# Altium integrated library Linear Technology Power Management Power Control.IntLib: 661 symbols (part 32 of 43)
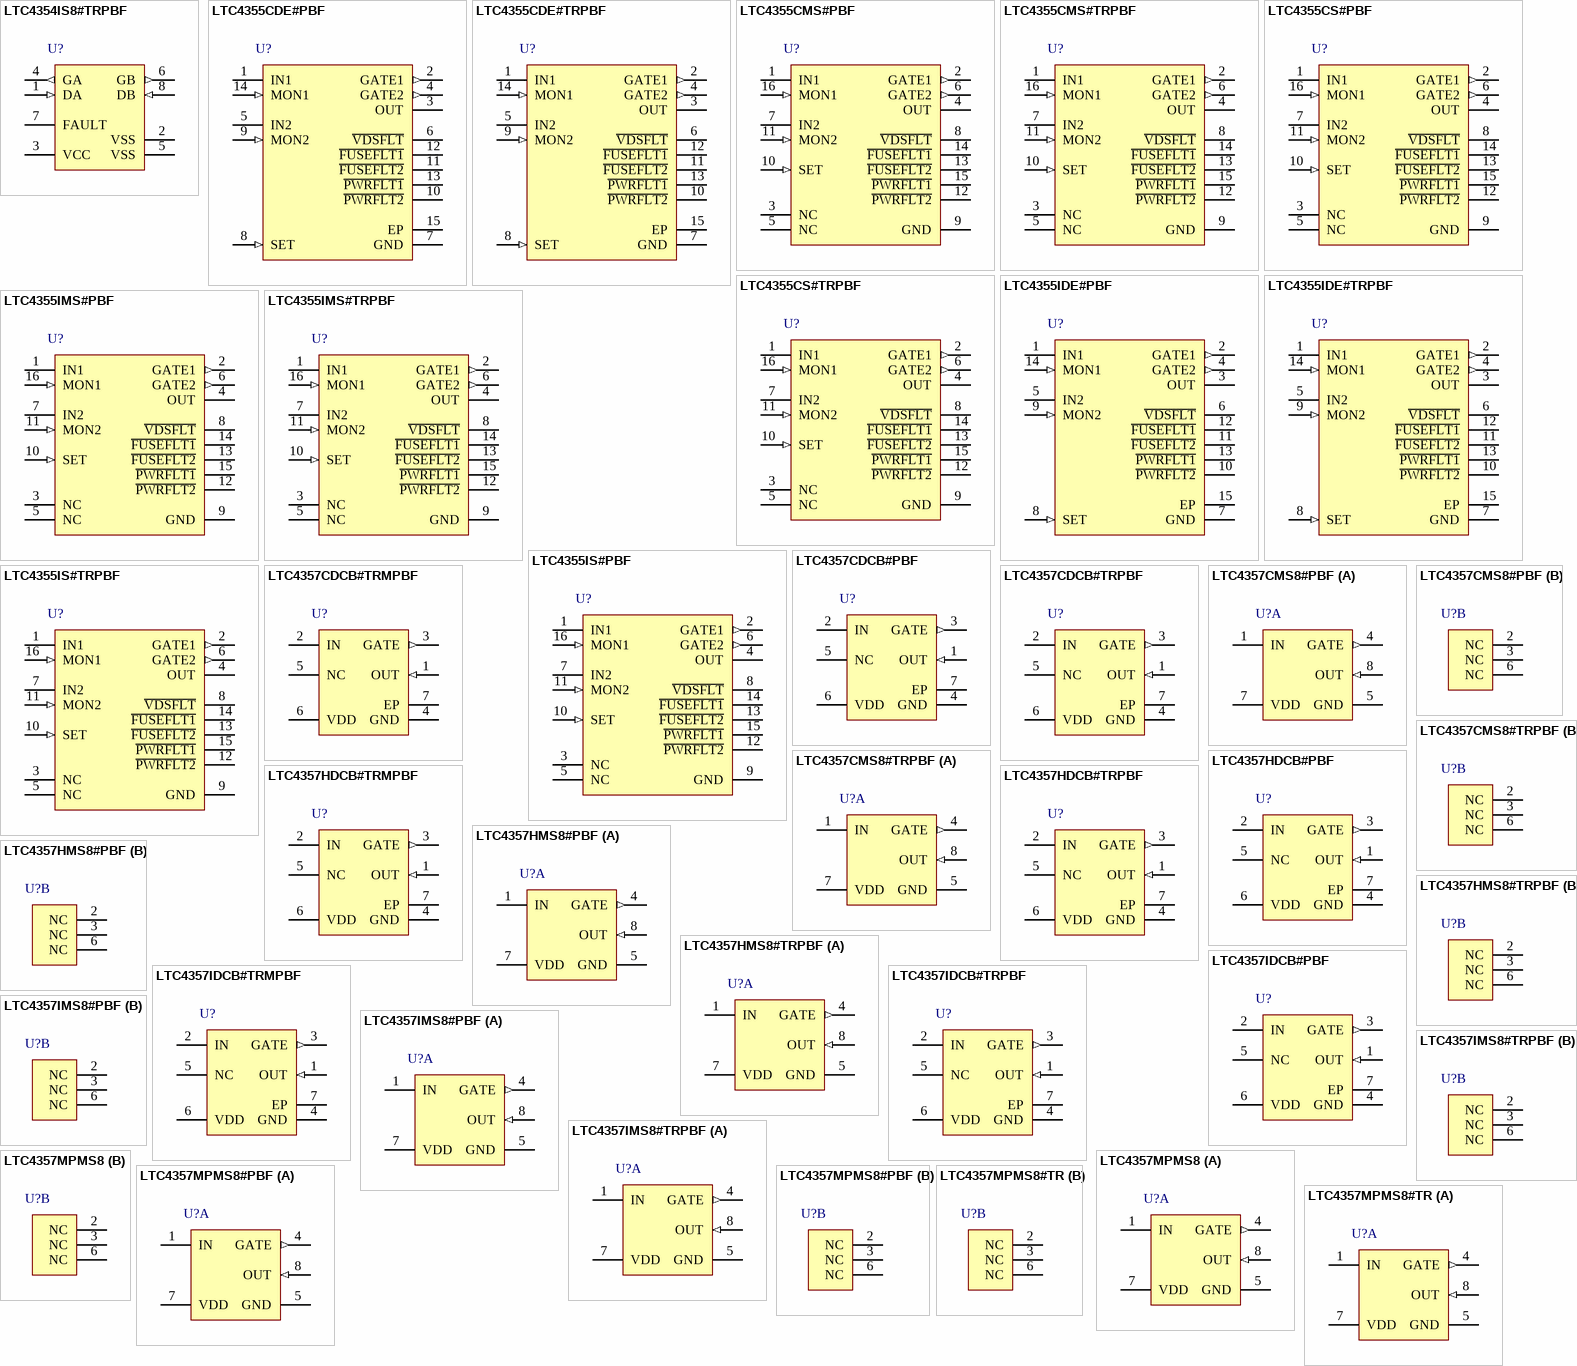
[diagram p50: symbols LTC4354IS8#TRPBF to LTC4357MPMS8#TR]

## LTC4357IMS8#TRPBF
designator U?
Positive High Voltage Ideal Diode Controller, 9 to 80 V Vin, 8-pin SOP (MS8-8), -40 to 85 degC, Pb-Free, Tape and Reel; Manufacturer: Linear Technology; PartNumber: LTC4357IMS8#TRPBF; Ideal Diode: Single, External, N-Channel; DatasheetVersion: Rev. D; PackageVersion: Rev. G, 03/2012; PackageReference: MS8-8; PackageDescription: 8-Pin Plastic MSOP, Body 3 x 3 mm, Pitch 0.65 mm; Supplier 1: Digi-Key; Supplier Part Number 1: LTC4357IMS8#TRPBF-ND; Supplier 2: Newark; Supplier Part Number 2: 56M9473; Packing: Tape and Reel; RoHS: TRUE; Mounting Technology: Surface Mount; ComponentLink1Description: Manufacturer URL; ComponentLink1URL: http://www.linear.com/; ComponentLink2Description: Datasheet; ComponentLink2URL: http://cds.linear.com/docs/en/datasheet/4357fd.pdf; ComponentLink3Description: Package Specification; ComponentLink3URL: http://cds.linear.com/docs/en/packaging/05081660_G_MS8.pdf
footprint LT-MS8-8_N (SOP, 8-Leads, Body 3.1x3.1mm, Pitch 0.65mm, IPC Medium Density)
footprint LT-MS8-8_L (SOP, 8-Leads, Body 3.1x3.1mm, Pitch 0.65mm, IPC High Density)
footprint LT-MS8-8_M (SOP, 8-Leads, Body 3.1x3.1mm, Pitch 0.65mm, IPC Low Density)
part A pins: 1 IN (power) "Input Voltage and GATE Fast Pull-Down Return. IN is the anode of the ideal diode and connects to the source of the N-channel MOSFET. The voltage sensed at this pin is used to control the source-drain voltage across the (See Datasheet)", 4 GATE (out) "Gate Drive Output. The GATE pin pulls high, enhancing the N-channel MOSFET when the load current creates more than 25mV of voltage drop across the MOSFET. When the load current is small, the gate is actively driven to (See Datasheet)", 5 GND (power) "Device Ground.", 7 VDD (power) "Positive Supply Input. The LTC4357 is powered from the VDD pin. Connect this pin to OUT either directly or through an RC hold-up circuit.", 8 OUT (in) "Drain Voltage Sense. OUT is the cathode of the ideal diode and the common output when multiple LTC4357s are configured as an ideal diode-OR. It connects to the drain of the N-channel MOSFET. The voltage sensed at this pin is (See Datasheet)"
part B pins: 2 NC "No Connection. Not internally connected.", 3 NC "No Connection. Not internally connected.", 6 NC "No Connection. Not internally connected."

## LTC4357MPMS8
designator U?
Positive High Voltage Ideal Diode Controller, 9 to 80 V Vin, 8-pin SOP (MS8-8), -55 to 125 degC; Manufacturer: Linear Technology; PartNumber: LTC4357MPMS8; Ideal Diode: Single, External, N-Channel; DatasheetVersion: Rev. D; PackageVersion: Rev. G, 03/2012; PackageReference: MS8-8; PackageDescription: 8-Pin Plastic MSOP, Body 3 x 3 mm, Pitch 0.65 mm; Supplier 1: Digi-Key; Supplier Part Number 1: LTC4357MPMS8-ND; RoHS: FALSE; Mounting Technology: Surface Mount; ComponentLink1Description: Manufacturer URL; ComponentLink1URL: http://www.linear.com/; ComponentLink2Description: Datasheet; ComponentLink2URL: http://cds.linear.com/docs/en/datasheet/4357fd.pdf; ComponentLink3Description: Package Specification; ComponentLink3URL: http://cds.linear.com/docs/en/packaging/05081660_G_MS8.pdf
footprint LT-MS8-8_N (SOP, 8-Leads, Body 3.1x3.1mm, Pitch 0.65mm, IPC Medium Density)
footprint LT-MS8-8_L (SOP, 8-Leads, Body 3.1x3.1mm, Pitch 0.65mm, IPC High Density)
footprint LT-MS8-8_M (SOP, 8-Leads, Body 3.1x3.1mm, Pitch 0.65mm, IPC Low Density)
part A pins: 1 IN (power) "Input Voltage and GATE Fast Pull-Down Return. IN is the anode of the ideal diode and connects to the source of the N-channel MOSFET. The voltage sensed at this pin is used to control the source-drain voltage across the (See Datasheet)", 4 GATE (out) "Gate Drive Output. The GATE pin pulls high, enhancing the N-channel MOSFET when the load current creates more than 25mV of voltage drop across the MOSFET. When the load current is small, the gate is actively driven to (See Datasheet)", 5 GND (power) "Device Ground.", 7 VDD (power) "Positive Supply Input. The LTC4357 is powered from the VDD pin. Connect this pin to OUT either directly or through an RC hold-up circuit.", 8 OUT (in) "Drain Voltage Sense. OUT is the cathode of the ideal diode and the common output when multiple LTC4357s are configured as an ideal diode-OR. It connects to the drain of the N-channel MOSFET. The voltage sensed at this pin is (See Datasheet)"
part B pins: 2 NC "No Connection. Not internally connected.", 3 NC "No Connection. Not internally connected.", 6 NC "No Connection. Not internally connected."

## LTC4357MPMS8#PBF
designator U?
Positive High Voltage Ideal Diode Controller, 9 to 80 V Vin, 8-pin SOP (MS8-8), -55 to 125 degC, Pb-Free; Manufacturer: Linear Technology; PartNumber: LTC4357MPMS8#PBF; Ideal Diode: Single, External, N-Channel; DatasheetVersion: Rev. D; PackageVersion: Rev. G, 03/2012; PackageReference: MS8-8; PackageDescription: 8-Pin Plastic MSOP, Body 3 x 3 mm, Pitch 0.65 mm; Supplier 1: Digi-Key; Supplier Part Number 1: LTC4357MPMS8#PBF-ND; Supplier 2: Farnell; Supplier Part Number 2: 1847453; Supplier 3: Farnell; Supplier Part Number 3: 1847627; Supplier 4: Newark; Supplier Part Number 4: 84R4993; RoHS: TRUE; Mounting Technology: Surface Mount; ComponentLink1Description: Manufacturer URL; ComponentLink1URL: http://www.linear.com/; ComponentLink2Description: Datasheet; ComponentLink2URL: http://cds.linear.com/docs/en/datasheet/4357fd.pdf; ComponentLink3Description: Package Specification; ComponentLink3URL: http://cds.linear.com/docs/en/packaging/05081660_G_MS8.pdf
footprint LT-MS8-8_N (SOP, 8-Leads, Body 3.1x3.1mm, Pitch 0.65mm, IPC Medium Density)
footprint LT-MS8-8_L (SOP, 8-Leads, Body 3.1x3.1mm, Pitch 0.65mm, IPC High Density)
footprint LT-MS8-8_M (SOP, 8-Leads, Body 3.1x3.1mm, Pitch 0.65mm, IPC Low Density)
part A pins: 1 IN (power) "Input Voltage and GATE Fast Pull-Down Return. IN is the anode of the ideal diode and connects to the source of the N-channel MOSFET. The voltage sensed at this pin is used to control the source-drain voltage across the (See Datasheet)", 4 GATE (out) "Gate Drive Output. The GATE pin pulls high, enhancing the N-channel MOSFET when the load current creates more than 25mV of voltage drop across the MOSFET. When the load current is small, the gate is actively driven to (See Datasheet)", 5 GND (power) "Device Ground.", 7 VDD (power) "Positive Supply Input. The LTC4357 is powered from the VDD pin. Connect this pin to OUT either directly or through an RC hold-up circuit.", 8 OUT (in) "Drain Voltage Sense. OUT is the cathode of the ideal diode and the common output when multiple LTC4357s are configured as an ideal diode-OR. It connects to the drain of the N-channel MOSFET. The voltage sensed at this pin is (See Datasheet)"
part B pins: 2 NC "No Connection. Not internally connected.", 3 NC "No Connection. Not internally connected.", 6 NC "No Connection. Not internally connected."

## LTC4357MPMS8#TR
designator U?
Positive High Voltage Ideal Diode Controller, 9 to 80 V Vin, 8-pin SOP (MS8-8), -55 to 125 degC, Tape and Reel; Manufacturer: Linear Technology; PartNumber: LTC4357MPMS8#TR; Ideal Diode: Single, External, N-Channel; DatasheetVersion: Rev. D; PackageVersion: Rev. G, 03/2012; PackageReference: MS8-8; PackageDescription: 8-Pin Plastic MSOP, Body 3 x 3 mm, Pitch 0.65 mm; Supplier 1: Digi-Key; Supplier Part Number 1: LTC4357MPMS8#TR-ND; Packing: Tape and Reel; RoHS: FALSE; Mounting Technology: Surface Mount; ComponentLink1Description: Manufacturer URL; ComponentLink1URL: http://www.linear.com/; ComponentLink2Description: Datasheet; ComponentLink2URL: http://cds.linear.com/docs/en/datasheet/4357fd.pdf; ComponentLink3Description: Package Specification; ComponentLink3URL: http://cds.linear.com/docs/en/packaging/05081660_G_MS8.pdf
footprint LT-MS8-8_N (SOP, 8-Leads, Body 3.1x3.1mm, Pitch 0.65mm, IPC Medium Density)
footprint LT-MS8-8_L (SOP, 8-Leads, Body 3.1x3.1mm, Pitch 0.65mm, IPC High Density)
footprint LT-MS8-8_M (SOP, 8-Leads, Body 3.1x3.1mm, Pitch 0.65mm, IPC Low Density)
part A pins: 1 IN (power) "Input Voltage and GATE Fast Pull-Down Return. IN is the anode of the ideal diode and connects to the source of the N-channel MOSFET. The voltage sensed at this pin is used to control the source-drain voltage across the (See Datasheet)", 4 GATE (out) "Gate Drive Output. The GATE pin pulls high, enhancing the N-channel MOSFET when the load current creates more than 25mV of voltage drop across the MOSFET. When the load current is small, the gate is actively driven to (See Datasheet)", 5 GND (power) "Device Ground.", 7 VDD (power) "Positive Supply Input. The LTC4357 is powered from the VDD pin. Connect this pin to OUT either directly or through an RC hold-up circuit.", 8 OUT (in) "Drain Voltage Sense. OUT is the cathode of the ideal diode and the common output when multiple LTC4357s are configured as an ideal diode-OR. It connects to the drain of the N-channel MOSFET. The voltage sensed at this pin is (See Datasheet)"
part B pins: 2 NC "No Connection. Not internally connected.", 3 NC "No Connection. Not internally connected.", 6 NC "No Connection. Not internally connected."

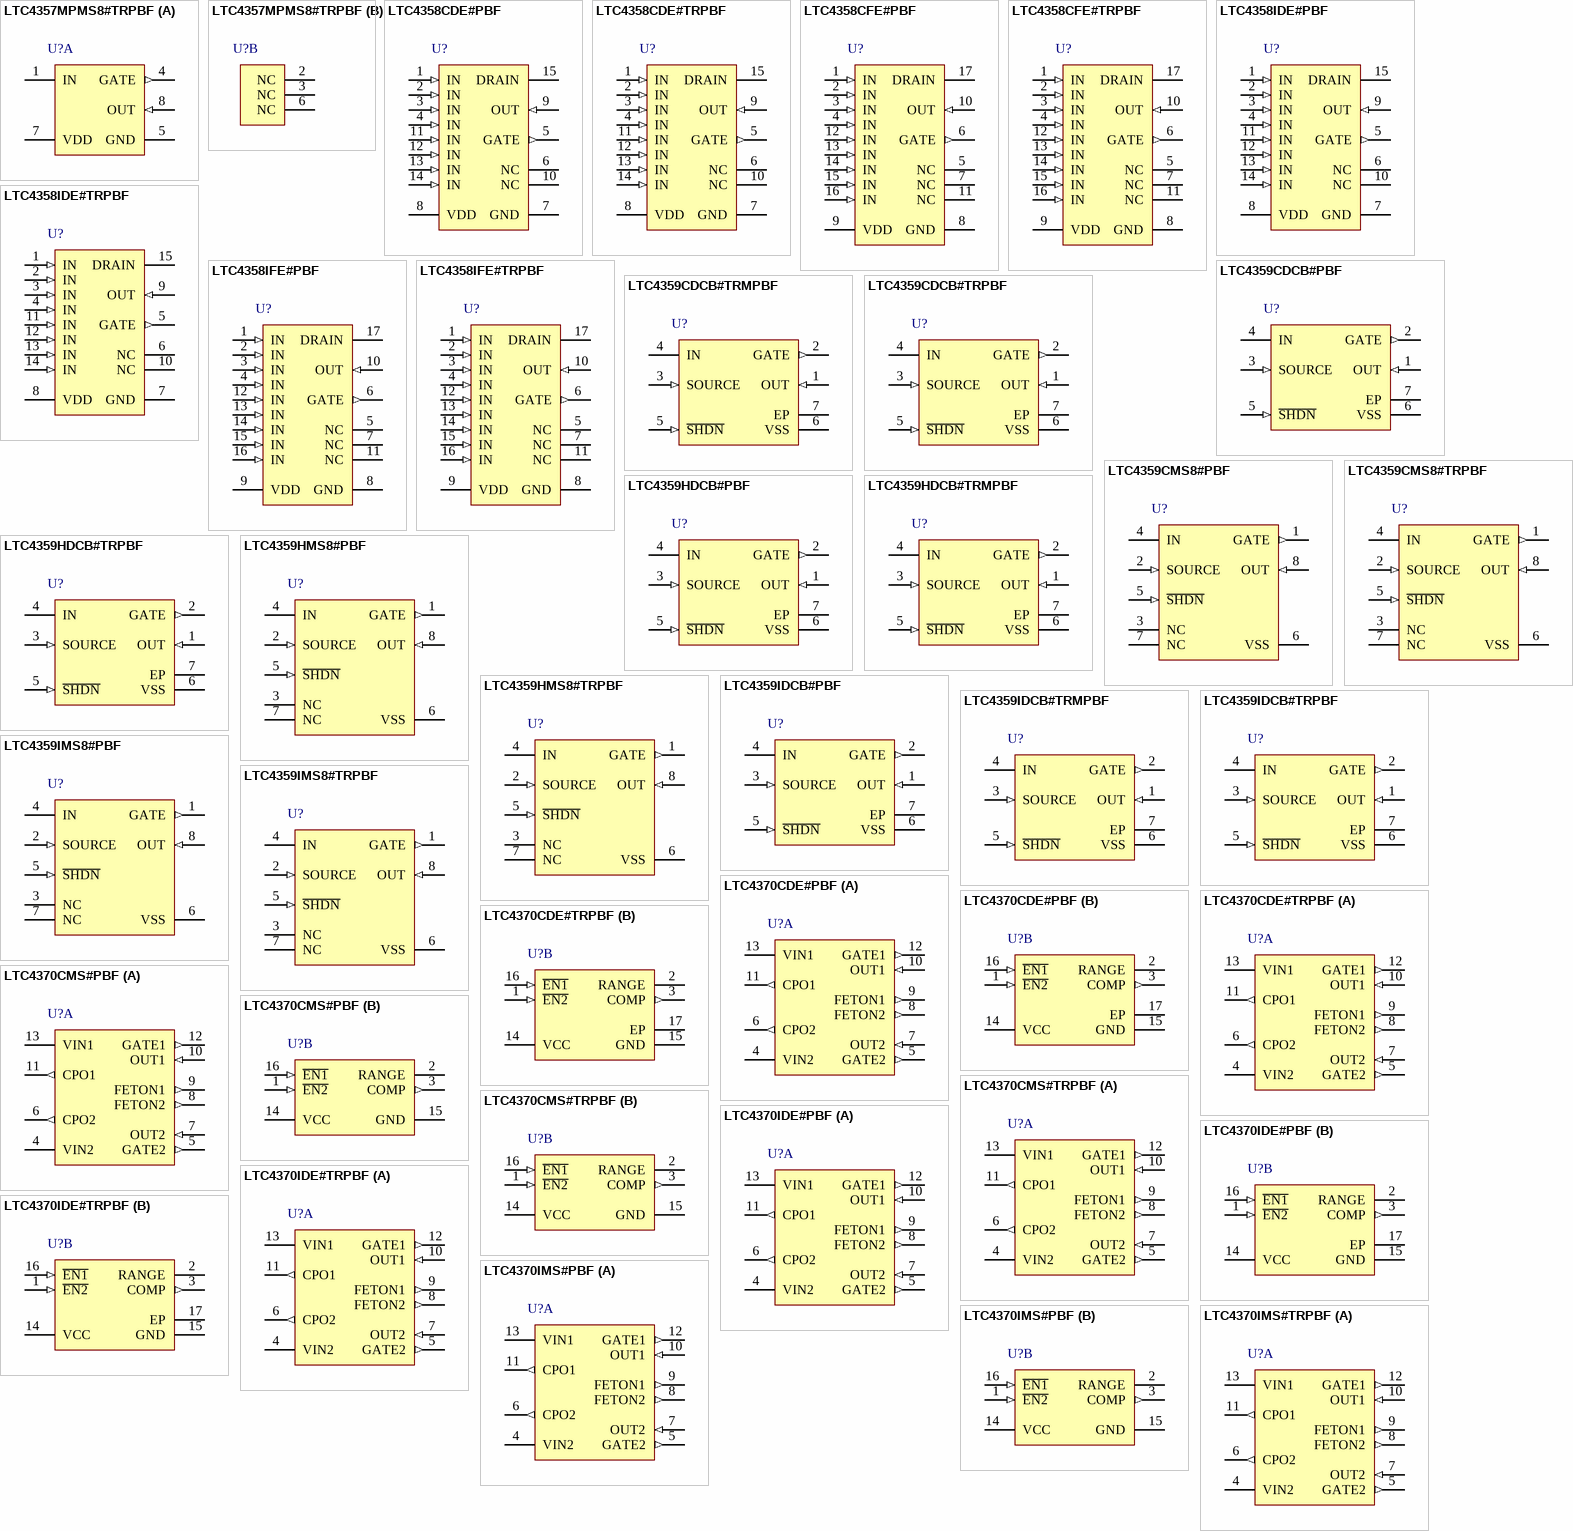
[diagram p15: symbols LTC4357MPMS8#TRPBF to LTC4370IMS#TRPBF]

## LTC4357MPMS8#TRPBF
designator U?
Positive High Voltage Ideal Diode Controller, 9 to 80 V Vin, 8-pin SOP (MS8-8), -55 to 125 degC, Pb-Free, Tape and Reel; Manufacturer: Linear Technology; PartNumber: LTC4357MPMS8#TRPBF; Ideal Diode: Single, External, N-Channel; DatasheetVersion: Rev. D; PackageVersion: Rev. G, 03/2012; PackageReference: MS8-8; PackageDescription: 8-Pin Plastic MSOP, Body 3 x 3 mm, Pitch 0.65 mm; Supplier 1: Digi-Key; Supplier Part Number 1: LTC4357MPMS8#TRPBF-ND; Packing: Tape and Reel; RoHS: TRUE; Mounting Technology: Surface Mount; ComponentLink1Description: Manufacturer URL; ComponentLink1URL: http://www.linear.com/; ComponentLink2Description: Datasheet; ComponentLink2URL: http://cds.linear.com/docs/en/datasheet/4357fd.pdf; ComponentLink3Description: Package Specification; ComponentLink3URL: http://cds.linear.com/docs/en/packaging/05081660_G_MS8.pdf
footprint LT-MS8-8_N (SOP, 8-Leads, Body 3.1x3.1mm, Pitch 0.65mm, IPC Medium Density)
footprint LT-MS8-8_L (SOP, 8-Leads, Body 3.1x3.1mm, Pitch 0.65mm, IPC High Density)
footprint LT-MS8-8_M (SOP, 8-Leads, Body 3.1x3.1mm, Pitch 0.65mm, IPC Low Density)
part A pins: 1 IN (power) "Input Voltage and GATE Fast Pull-Down Return. IN is the anode of the ideal diode and connects to the source of the N-channel MOSFET. The voltage sensed at this pin is used to control the source-drain voltage across the (See Datasheet)", 4 GATE (out) "Gate Drive Output. The GATE pin pulls high, enhancing the N-channel MOSFET when the load current creates more than 25mV of voltage drop across the MOSFET. When the load current is small, the gate is actively driven to (See Datasheet)", 5 GND (power) "Device Ground.", 7 VDD (power) "Positive Supply Input. The LTC4357 is powered from the VDD pin. Connect this pin to OUT either directly or through an RC hold-up circuit.", 8 OUT (in) "Drain Voltage Sense. OUT is the cathode of the ideal diode and the common output when multiple LTC4357s are configured as an ideal diode-OR. It connects to the drain of the N-channel MOSFET. The voltage sensed at this pin is (See Datasheet)"
part B pins: 2 NC "No Connection. Not internally connected.", 3 NC "No Connection. Not internally connected.", 6 NC "No Connection. Not internally connected."

## LTC4358CDE#PBF
designator U?
5 A Ideal Diode, 9 to 26.5 V Vin, 14-pin SON (DE-14), 0 to 70 degC, Pb-Free; Manufacturer: Linear Technology; PartNumber: LTC4358CDE#PBF; Ideal Diode: Single, Internal, N-Channel; DatasheetVersion: Rev. A; PackageVersion: Rev. B, 06/2010; PackageReference: DE-14; PackageDescription: 14-Pin Plastic DFN, Body 4 x 3 mm, Pitch 0.5 mm; Supplier 1: Digi-Key; Supplier Part Number 1: LTC4358CDE#PBF-ND; Supplier 2: Farnell; Supplier Part Number 2: 2308397; Supplier 3: Newark; Supplier Part Number 3: 02P7614; RoHS: TRUE; Mounting Technology: Surface Mount; Code_JEDEC: MO-229; ComponentLink1Description: Manufacturer URL; ComponentLink1URL: http://www.linear.com/; ComponentLink2Description: Datasheet; ComponentLink2URL: http://cds.linear.com/docs/en/datasheet/4358fa.pdf; ComponentLink3Description: Package Specification; ComponentLink3URL: http://www.linear.com/docs/en/packaging/DFN_14_05-08-1708.pdf
footprint LT-DE-14_V (SON, 14-Leads, Body 4x3mm, Pitch 0.5mm, Thermal Pad 3.3x1.7mm)
pins: 1 IN (in) "Input Voltage and Fast Pulldown Return. IN is the anode of the ideal diode. The voltage sensed at this pin is used to control the source-drain voltage drop across the internal MOSFET. If reverse current starts to flow, a (See Datasheet)", 2 IN (in) "Input Voltage and Fast Pulldown Return. IN is the anode of the ideal diode. The voltage sensed at this pin is used to control the source-drain voltage drop across the internal MOSFET. If reverse current starts to flow, a (See Datasheet)", 3 IN (in) "Input Voltage and Fast Pulldown Return. IN is the anode of the ideal diode. The voltage sensed at this pin is used to control the source-drain voltage drop across the internal MOSFET. If reverse current starts to flow, a (See Datasheet)", 4 IN (in) "Input Voltage and Fast Pulldown Return. IN is the anode of the ideal diode. The voltage sensed at this pin is used to control the source-drain voltage drop across the internal MOSFET. If reverse current starts to flow, a (See Datasheet)", 5 GATE (out) "Gate Drive Output. If reverse current flows, a fast pulldown circuit quickly connects the GATE pin to the IN pin, turning off the MOSFET. Leave open if unused.", 6 NC "No Connection. Not internally connected.", 7 GND (power) "Device Ground.", 8 VDD (power) "Positive Supply Input. The LTC4358 is powered from the VDD pin. Connect this pin to OUT either directly or through an RC hold-up circuit.", 9 OUT (in) "Output Voltage. The OUT pin is the cathode of the ideal diode and the common output when multiple LTC4358s are configured as an ideal diode-OR. The voltage sensed at this pin is used to control the source-drain voltage drop (See Datasheet)", 10 NC "No Connection. Not internally connected.", 11 IN (in) "Input Voltage and Fast Pulldown Return. IN is the anode of the ideal diode. The voltage sensed at this pin is used to control the source-drain voltage drop across the internal MOSFET. If reverse current starts to flow, a (See Datasheet)", 12 IN (in) "Input Voltage and Fast Pulldown Return. IN is the anode of the ideal diode. The voltage sensed at this pin is used to control the source-drain voltage drop across the internal MOSFET. If reverse current starts to flow, a (See Datasheet)", 13 IN (in) "Input Voltage and Fast Pulldown Return. IN is the anode of the ideal diode. The voltage sensed at this pin is used to control the source-drain voltage drop across the internal MOSFET. If reverse current starts to flow, a (See Datasheet)", 14 IN (in) "Input Voltage and Fast Pulldown Return. IN is the anode of the ideal diode. The voltage sensed at this pin is used to control the source-drain voltage drop across the internal MOSFET. If reverse current starts to flow, a (See Datasheet)", 15 DRAIN "The exposed pad is the drain of the internal N-channel MOSFET. This pin must be connected to OUT (Pin 9/Pin 10)."

## LTC4358CDE#TRPBF
designator U?
5 A Ideal Diode, 9 to 26.5 V Vin, 14-pin SON (DE-14), 0 to 70 degC, Pb-Free, Tape and Reel; Manufacturer: Linear Technology; PartNumber: LTC4358CDE#TRPBF; Ideal Diode: Single, Internal, N-Channel; DatasheetVersion: Rev. A; PackageVersion: Rev. B, 06/2010; PackageReference: DE-14; PackageDescription: 14-Pin Plastic DFN, Body 4 x 3 mm, Pitch 0.5 mm; Supplier 1: Digi-Key; Supplier Part Number 1: LTC4358CDE#TRPBF-ND; Supplier 2: Newark; Supplier Part Number 2: 02P7615; Packing: Tape and Reel; RoHS: TRUE; Mounting Technology: Surface Mount; Code_JEDEC: MO-229; ComponentLink1Description: Manufacturer URL; ComponentLink1URL: http://www.linear.com/; ComponentLink2Description: Datasheet; ComponentLink2URL: http://cds.linear.com/docs/en/datasheet/4358fa.pdf; ComponentLink3Description: Package Specification; ComponentLink3URL: http://www.linear.com/docs/en/packaging/DFN_14_05-08-1708.pdf
footprint LT-DE-14_V (SON, 14-Leads, Body 4x3mm, Pitch 0.5mm, Thermal Pad 3.3x1.7mm)
pins: 1 IN (in) "Input Voltage and Fast Pulldown Return. IN is the anode of the ideal diode. The voltage sensed at this pin is used to control the source-drain voltage drop across the internal MOSFET. If reverse current starts to flow, a (See Datasheet)", 2 IN (in) "Input Voltage and Fast Pulldown Return. IN is the anode of the ideal diode. The voltage sensed at this pin is used to control the source-drain voltage drop across the internal MOSFET. If reverse current starts to flow, a (See Datasheet)", 3 IN (in) "Input Voltage and Fast Pulldown Return. IN is the anode of the ideal diode. The voltage sensed at this pin is used to control the source-drain voltage drop across the internal MOSFET. If reverse current starts to flow, a (See Datasheet)", 4 IN (in) "Input Voltage and Fast Pulldown Return. IN is the anode of the ideal diode. The voltage sensed at this pin is used to control the source-drain voltage drop across the internal MOSFET. If reverse current starts to flow, a (See Datasheet)", 5 GATE (out) "Gate Drive Output. If reverse current flows, a fast pulldown circuit quickly connects the GATE pin to the IN pin, turning off the MOSFET. Leave open if unused.", 6 NC "No Connection. Not internally connected.", 7 GND (power) "Device Ground.", 8 VDD (power) "Positive Supply Input. The LTC4358 is powered from the VDD pin. Connect this pin to OUT either directly or through an RC hold-up circuit.", 9 OUT (in) "Output Voltage. The OUT pin is the cathode of the ideal diode and the common output when multiple LTC4358s are configured as an ideal diode-OR. The voltage sensed at this pin is used to control the source-drain voltage drop (See Datasheet)", 10 NC "No Connection. Not internally connected.", 11 IN (in) "Input Voltage and Fast Pulldown Return. IN is the anode of the ideal diode. The voltage sensed at this pin is used to control the source-drain voltage drop across the internal MOSFET. If reverse current starts to flow, a (See Datasheet)", 12 IN (in) "Input Voltage and Fast Pulldown Return. IN is the anode of the ideal diode. The voltage sensed at this pin is used to control the source-drain voltage drop across the internal MOSFET. If reverse current starts to flow, a (See Datasheet)", 13 IN (in) "Input Voltage and Fast Pulldown Return. IN is the anode of the ideal diode. The voltage sensed at this pin is used to control the source-drain voltage drop across the internal MOSFET. If reverse current starts to flow, a (See Datasheet)", 14 IN (in) "Input Voltage and Fast Pulldown Return. IN is the anode of the ideal diode. The voltage sensed at this pin is used to control the source-drain voltage drop across the internal MOSFET. If reverse current starts to flow, a (See Datasheet)", 15 DRAIN "The exposed pad is the drain of the internal N-channel MOSFET. This pin must be connected to OUT (Pin 9/Pin 10)."

## LTC4358CFE#PBF
designator U?
5 A Ideal Diode, 9 to 26.5 V Vin, 16-pin SOP (FE-16-EPV-BC), 0 to 70 degC, Pb-Free; Manufacturer: Linear Technology; PartNumber: LTC4358CFE#PBF; Ideal Diode: Single, Internal, N-Channel; DatasheetVersion: Rev. A; PackageVersion: Rev. J, 11/2012; PackageReference: FE-16; PackageDescription: 16-Pin Plastic TSSOP, Body 5 x 4.4 mm, Pitch 0.65 mm; Supplier 1: Digi-Key; Supplier Part Number 1: LTC4358CFE#PBF-ND; Supplier 2: Newark; Supplier Part Number 2: 02P7616; RoHS: TRUE; Mounting Technology: Surface Mount; ComponentLink1Description: Manufacturer URL; ComponentLink1URL: http://www.linear.com/; ComponentLink2Description: Datasheet; ComponentLink2URL: http://cds.linear.com/docs/en/datasheet/4358fa.pdf; ComponentLink3Description: Package Specification; ComponentLink3URL: http://cds.linear.com/docs/en/packaging/05081663__J_FE16(BC).pdf
footprint LT-FE-16-EPV-BC_N (SOP, 16-Leads, Body 5.1x4.5mm, Pitch 0.65mm, Thermal Pad 3.58x2.94mm, IPC Medium Density)
footprint LT-FE-16-EPV-BC_L (SOP, 16-Leads, Body 5.1x4.5mm, Pitch 0.65mm, Thermal Pad 3.58x2.94mm, IPC High Density)
footprint LT-FE-16-EPV-BC_M (SOP, 16-Leads, Body 5.1x4.5mm, Pitch 0.65mm, Thermal Pad 3.58x2.94mm, IPC Low Density)
pins: 1 IN (in) "Input Voltage and Fast Pulldown Return. IN is the anode of the ideal diode. The voltage sensed at this pin is used to control the source-drain voltage drop across the internal MOSFET. If reverse current starts to flow, a (See Datasheet)", 2 IN (in) "Input Voltage and Fast Pulldown Return. IN is the anode of the ideal diode. The voltage sensed at this pin is used to control the source-drain voltage drop across the internal MOSFET. If reverse current starts to flow, a (See Datasheet)", 3 IN (in) "Input Voltage and Fast Pulldown Return. IN is the anode of the ideal diode. The voltage sensed at this pin is used to control the source-drain voltage drop across the internal MOSFET. If reverse current starts to flow, a (See Datasheet)", 4 IN (in) "Input Voltage and Fast Pulldown Return. IN is the anode of the ideal diode. The voltage sensed at this pin is used to control the source-drain voltage drop across the internal MOSFET. If reverse current starts to flow, a (See Datasheet)", 5 NC "No Connection. Not internally connected.", 6 GATE (out) "Gate Drive Output. If reverse current flows, a fast pulldown circuit quickly connects the GATE pin to the IN pin, turning off the MOSFET. Leave open if unused.", 7 NC "No Connection. Not internally connected.", 8 GND (power) "Device Ground.", 9 VDD (power) "Positive Supply Input. The LTC4358 is powered from the VDD pin. Connect this pin to OUT either directly or through an RC hold-up circuit.", 10 OUT (in) "Output Voltage. The OUT pin is the cathode of the ideal diode and the common output when multiple LTC4358s are configured as an ideal diode-OR. The voltage sensed at this pin is used to control the source-drain voltage drop (See Datasheet)", 11 NC "No Connection. Not internally connected.", 12 IN (in) "Input Voltage and Fast Pulldown Return. IN is the anode of the ideal diode. The voltage sensed at this pin is used to control the source-drain voltage drop across the internal MOSFET. If reverse current starts to flow, a (See Datasheet)", 13 IN (in) "Input Voltage and Fast Pulldown Return. IN is the anode of the ideal diode. The voltage sensed at this pin is used to control the source-drain voltage drop across the internal MOSFET. If reverse current starts to flow, a (See Datasheet)", 14 IN (in) "Input Voltage and Fast Pulldown Return. IN is the anode of the ideal diode. The voltage sensed at this pin is used to control the source-drain voltage drop across the internal MOSFET. If reverse current starts to flow, a (See Datasheet)", 15 IN (in) "Input Voltage and Fast Pulldown Return. IN is the anode of the ideal diode. The voltage sensed at this pin is used to control the source-drain voltage drop across the internal MOSFET. If reverse current starts to flow, a (See Datasheet)", 16 IN (in) "Input Voltage and Fast Pulldown Return. IN is the anode of the ideal diode. The voltage sensed at this pin is used to control the source-drain voltage drop across the internal MOSFET. If reverse current starts to flow, a (See Datasheet)", 17 DRAIN "The exposed pad is the drain of the internal N-channel MOSFET. This pin must be connected to OUT (Pin 9/Pin 10)."

## LTC4358CFE#TRPBF
designator U?
5 A Ideal Diode, 9 to 26.5 V Vin, 16-pin SOP (FE-16-EPV-BC), 0 to 70 degC, Pb-Free, Tape and Reel; Manufacturer: Linear Technology; PartNumber: LTC4358CFE#TRPBF; Ideal Diode: Single, Internal, N-Channel; DatasheetVersion: Rev. A; PackageVersion: Rev. J, 11/2012; PackageReference: FE-16; PackageDescription: 16-Pin Plastic TSSOP, Body 5 x 4.4 mm, Pitch 0.65 mm; Supplier 1: Digi-Key; Supplier Part Number 1: LTC4358CFE#TRPBF-ND; Packing: Tape and Reel; RoHS: TRUE; Mounting Technology: Surface Mount; ComponentLink1Description: Manufacturer URL; ComponentLink1URL: http://www.linear.com/; ComponentLink2Description: Datasheet; ComponentLink2URL: http://cds.linear.com/docs/en/datasheet/4358fa.pdf; ComponentLink3Description: Package Specification; ComponentLink3URL: http://cds.linear.com/docs/en/packaging/05081663__J_FE16(BC).pdf
footprint LT-FE-16-EPV-BC_N (SOP, 16-Leads, Body 5.1x4.5mm, Pitch 0.65mm, Thermal Pad 3.58x2.94mm, IPC Medium Density)
footprint LT-FE-16-EPV-BC_L (SOP, 16-Leads, Body 5.1x4.5mm, Pitch 0.65mm, Thermal Pad 3.58x2.94mm, IPC High Density)
footprint LT-FE-16-EPV-BC_M (SOP, 16-Leads, Body 5.1x4.5mm, Pitch 0.65mm, Thermal Pad 3.58x2.94mm, IPC Low Density)
pins: 1 IN (in) "Input Voltage and Fast Pulldown Return. IN is the anode of the ideal diode. The voltage sensed at this pin is used to control the source-drain voltage drop across the internal MOSFET. If reverse current starts to flow, a (See Datasheet)", 2 IN (in) "Input Voltage and Fast Pulldown Return. IN is the anode of the ideal diode. The voltage sensed at this pin is used to control the source-drain voltage drop across the internal MOSFET. If reverse current starts to flow, a (See Datasheet)", 3 IN (in) "Input Voltage and Fast Pulldown Return. IN is the anode of the ideal diode. The voltage sensed at this pin is used to control the source-drain voltage drop across the internal MOSFET. If reverse current starts to flow, a (See Datasheet)", 4 IN (in) "Input Voltage and Fast Pulldown Return. IN is the anode of the ideal diode. The voltage sensed at this pin is used to control the source-drain voltage drop across the internal MOSFET. If reverse current starts to flow, a (See Datasheet)", 5 NC "No Connection. Not internally connected.", 6 GATE (out) "Gate Drive Output. If reverse current flows, a fast pulldown circuit quickly connects the GATE pin to the IN pin, turning off the MOSFET. Leave open if unused.", 7 NC "No Connection. Not internally connected.", 8 GND (power) "Device Ground.", 9 VDD (power) "Positive Supply Input. The LTC4358 is powered from the VDD pin. Connect this pin to OUT either directly or through an RC hold-up circuit.", 10 OUT (in) "Output Voltage. The OUT pin is the cathode of the ideal diode and the common output when multiple LTC4358s are configured as an ideal diode-OR. The voltage sensed at this pin is used to control the source-drain voltage drop (See Datasheet)", 11 NC "No Connection. Not internally connected.", 12 IN (in) "Input Voltage and Fast Pulldown Return. IN is the anode of the ideal diode. The voltage sensed at this pin is used to control the source-drain voltage drop across the internal MOSFET. If reverse current starts to flow, a (See Datasheet)", 13 IN (in) "Input Voltage and Fast Pulldown Return. IN is the anode of the ideal diode. The voltage sensed at this pin is used to control the source-drain voltage drop across the internal MOSFET. If reverse current starts to flow, a (See Datasheet)", 14 IN (in) "Input Voltage and Fast Pulldown Return. IN is the anode of the ideal diode. The voltage sensed at this pin is used to control the source-drain voltage drop across the internal MOSFET. If reverse current starts to flow, a (See Datasheet)", 15 IN (in) "Input Voltage and Fast Pulldown Return. IN is the anode of the ideal diode. The voltage sensed at this pin is used to control the source-drain voltage drop across the internal MOSFET. If reverse current starts to flow, a (See Datasheet)", 16 IN (in) "Input Voltage and Fast Pulldown Return. IN is the anode of the ideal diode. The voltage sensed at this pin is used to control the source-drain voltage drop across the internal MOSFET. If reverse current starts to flow, a (See Datasheet)", 17 DRAIN "The exposed pad is the drain of the internal N-channel MOSFET. This pin must be connected to OUT (Pin 9/Pin 10)."

## LTC4358IDE#PBF
designator U?
5 A Ideal Diode, 9 to 26.5 V Vin, 14-pin SON (DE-14), -40 to 85 degC, Pb-Free; Manufacturer: Linear Technology; PartNumber: LTC4358IDE#PBF; Ideal Diode: Single, Internal, N-Channel; DatasheetVersion: Rev. A; PackageVersion: Rev. B, 06/2010; PackageReference: DE-14; PackageDescription: 14-Pin Plastic DFN, Body 4 x 3 mm, Pitch 0.5 mm; Supplier 1: Digi-Key; Supplier Part Number 1: LTC4358IDE#PBF-ND; Supplier 2: Newark; Supplier Part Number 2: 02P7618; RoHS: TRUE; Mounting Technology: Surface Mount; Code_JEDEC: MO-229; ComponentLink1Description: Manufacturer URL; ComponentLink1URL: http://www.linear.com/; ComponentLink2Description: Datasheet; ComponentLink2URL: http://cds.linear.com/docs/en/datasheet/4358fa.pdf; ComponentLink3Description: Package Specification; ComponentLink3URL: http://www.linear.com/docs/en/packaging/DFN_14_05-08-1708.pdf
footprint LT-DE-14_V (SON, 14-Leads, Body 4x3mm, Pitch 0.5mm, Thermal Pad 3.3x1.7mm)
pins: 1 IN (in) "Input Voltage and Fast Pulldown Return. IN is the anode of the ideal diode. The voltage sensed at this pin is used to control the source-drain voltage drop across the internal MOSFET. If reverse current starts to flow, a (See Datasheet)", 2 IN (in) "Input Voltage and Fast Pulldown Return. IN is the anode of the ideal diode. The voltage sensed at this pin is used to control the source-drain voltage drop across the internal MOSFET. If reverse current starts to flow, a (See Datasheet)", 3 IN (in) "Input Voltage and Fast Pulldown Return. IN is the anode of the ideal diode. The voltage sensed at this pin is used to control the source-drain voltage drop across the internal MOSFET. If reverse current starts to flow, a (See Datasheet)", 4 IN (in) "Input Voltage and Fast Pulldown Return. IN is the anode of the ideal diode. The voltage sensed at this pin is used to control the source-drain voltage drop across the internal MOSFET. If reverse current starts to flow, a (See Datasheet)", 5 GATE (out) "Gate Drive Output. If reverse current flows, a fast pulldown circuit quickly connects the GATE pin to the IN pin, turning off the MOSFET. Leave open if unused.", 6 NC "No Connection. Not internally connected.", 7 GND (power) "Device Ground.", 8 VDD (power) "Positive Supply Input. The LTC4358 is powered from the VDD pin. Connect this pin to OUT either directly or through an RC hold-up circuit.", 9 OUT (in) "Output Voltage. The OUT pin is the cathode of the ideal diode and the common output when multiple LTC4358s are configured as an ideal diode-OR. The voltage sensed at this pin is used to control the source-drain voltage drop (See Datasheet)", 10 NC "No Connection. Not internally connected.", 11 IN (in) "Input Voltage and Fast Pulldown Return. IN is the anode of the ideal diode. The voltage sensed at this pin is used to control the source-drain voltage drop across the internal MOSFET. If reverse current starts to flow, a (See Datasheet)", 12 IN (in) "Input Voltage and Fast Pulldown Return. IN is the anode of the ideal diode. The voltage sensed at this pin is used to control the source-drain voltage drop across the internal MOSFET. If reverse current starts to flow, a (See Datasheet)", 13 IN (in) "Input Voltage and Fast Pulldown Return. IN is the anode of the ideal diode. The voltage sensed at this pin is used to control the source-drain voltage drop across the internal MOSFET. If reverse current starts to flow, a (See Datasheet)", 14 IN (in) "Input Voltage and Fast Pulldown Return. IN is the anode of the ideal diode. The voltage sensed at this pin is used to control the source-drain voltage drop across the internal MOSFET. If reverse current starts to flow, a (See Datasheet)", 15 DRAIN "The exposed pad is the drain of the internal N-channel MOSFET. This pin must be connected to OUT (Pin 9/Pin 10)."

## LTC4358IDE#TRPBF
designator U?
5 A Ideal Diode, 9 to 26.5 V Vin, 14-pin SON (DE-14), -40 to 85 degC, Pb-Free, Tape and Reel; Manufacturer: Linear Technology; PartNumber: LTC4358IDE#TRPBF; Ideal Diode: Single, Internal, N-Channel; DatasheetVersion: Rev. A; PackageVersion: Rev. B, 06/2010; PackageReference: DE-14; PackageDescription: 14-Pin Plastic DFN, Body 4 x 3 mm, Pitch 0.5 mm; Supplier 1: Digi-Key; Supplier Part Number 1: LTC4358IDE#TRPBF-ND; Supplier 2: Newark; Supplier Part Number 2: 02P7619; Packing: Tape and Reel; RoHS: TRUE; Mounting Technology: Surface Mount; Code_JEDEC: MO-229; ComponentLink1Description: Manufacturer URL; ComponentLink1URL: http://www.linear.com/; ComponentLink2Description: Datasheet; ComponentLink2URL: http://cds.linear.com/docs/en/datasheet/4358fa.pdf; ComponentLink3Description: Package Specification; ComponentLink3URL: http://www.linear.com/docs/en/packaging/DFN_14_05-08-1708.pdf
footprint LT-DE-14_V (SON, 14-Leads, Body 4x3mm, Pitch 0.5mm, Thermal Pad 3.3x1.7mm)
pins: 1 IN (in) "Input Voltage and Fast Pulldown Return. IN is the anode of the ideal diode. The voltage sensed at this pin is used to control the source-drain voltage drop across the internal MOSFET. If reverse current starts to flow, a (See Datasheet)", 2 IN (in) "Input Voltage and Fast Pulldown Return. IN is the anode of the ideal diode. The voltage sensed at this pin is used to control the source-drain voltage drop across the internal MOSFET. If reverse current starts to flow, a (See Datasheet)", 3 IN (in) "Input Voltage and Fast Pulldown Return. IN is the anode of the ideal diode. The voltage sensed at this pin is used to control the source-drain voltage drop across the internal MOSFET. If reverse current starts to flow, a (See Datasheet)", 4 IN (in) "Input Voltage and Fast Pulldown Return. IN is the anode of the ideal diode. The voltage sensed at this pin is used to control the source-drain voltage drop across the internal MOSFET. If reverse current starts to flow, a (See Datasheet)", 5 GATE (out) "Gate Drive Output. If reverse current flows, a fast pulldown circuit quickly connects the GATE pin to the IN pin, turning off the MOSFET. Leave open if unused.", 6 NC "No Connection. Not internally connected.", 7 GND (power) "Device Ground.", 8 VDD (power) "Positive Supply Input. The LTC4358 is powered from the VDD pin. Connect this pin to OUT either directly or through an RC hold-up circuit.", 9 OUT (in) "Output Voltage. The OUT pin is the cathode of the ideal diode and the common output when multiple LTC4358s are configured as an ideal diode-OR. The voltage sensed at this pin is used to control the source-drain voltage drop (See Datasheet)", 10 NC "No Connection. Not internally connected.", 11 IN (in) "Input Voltage and Fast Pulldown Return. IN is the anode of the ideal diode. The voltage sensed at this pin is used to control the source-drain voltage drop across the internal MOSFET. If reverse current starts to flow, a (See Datasheet)", 12 IN (in) "Input Voltage and Fast Pulldown Return. IN is the anode of the ideal diode. The voltage sensed at this pin is used to control the source-drain voltage drop across the internal MOSFET. If reverse current starts to flow, a (See Datasheet)", 13 IN (in) "Input Voltage and Fast Pulldown Return. IN is the anode of the ideal diode. The voltage sensed at this pin is used to control the source-drain voltage drop across the internal MOSFET. If reverse current starts to flow, a (See Datasheet)", 14 IN (in) "Input Voltage and Fast Pulldown Return. IN is the anode of the ideal diode. The voltage sensed at this pin is used to control the source-drain voltage drop across the internal MOSFET. If reverse current starts to flow, a (See Datasheet)", 15 DRAIN "The exposed pad is the drain of the internal N-channel MOSFET. This pin must be connected to OUT (Pin 9/Pin 10)."

## LTC4358IFE#PBF
designator U?
5 A Ideal Diode, 9 to 26.5 V Vin, 16-pin SOP (FE-16-EPV-BC), -40 to 85 degC, Pb-Free; Manufacturer: Linear Technology; PartNumber: LTC4358IFE#PBF; Ideal Diode: Single, Internal, N-Channel; DatasheetVersion: Rev. A; PackageVersion: Rev. J, 11/2012; PackageReference: FE-16; PackageDescription: 16-Pin Plastic TSSOP, Body 5 x 4.4 mm, Pitch 0.65 mm; Supplier 1: Digi-Key; Supplier Part Number 1: LTC4358IFE#PBF-ND; Supplier 2: Newark; Supplier Part Number 2: 02P7620; RoHS: TRUE; Mounting Technology: Surface Mount; ComponentLink1Description: Manufacturer URL; ComponentLink1URL: http://www.linear.com/; ComponentLink2Description: Datasheet; ComponentLink2URL: http://cds.linear.com/docs/en/datasheet/4358fa.pdf; ComponentLink3Description: Package Specification; ComponentLink3URL: http://cds.linear.com/docs/en/packaging/05081663__J_FE16(BC).pdf
footprint LT-FE-16-EPV-BC_N (SOP, 16-Leads, Body 5.1x4.5mm, Pitch 0.65mm, Thermal Pad 3.58x2.94mm, IPC Medium Density)
footprint LT-FE-16-EPV-BC_L (SOP, 16-Leads, Body 5.1x4.5mm, Pitch 0.65mm, Thermal Pad 3.58x2.94mm, IPC High Density)
footprint LT-FE-16-EPV-BC_M (SOP, 16-Leads, Body 5.1x4.5mm, Pitch 0.65mm, Thermal Pad 3.58x2.94mm, IPC Low Density)
pins: 1 IN (in) "Input Voltage and Fast Pulldown Return. IN is the anode of the ideal diode. The voltage sensed at this pin is used to control the source-drain voltage drop across the internal MOSFET. If reverse current starts to flow, a (See Datasheet)", 2 IN (in) "Input Voltage and Fast Pulldown Return. IN is the anode of the ideal diode. The voltage sensed at this pin is used to control the source-drain voltage drop across the internal MOSFET. If reverse current starts to flow, a (See Datasheet)", 3 IN (in) "Input Voltage and Fast Pulldown Return. IN is the anode of the ideal diode. The voltage sensed at this pin is used to control the source-drain voltage drop across the internal MOSFET. If reverse current starts to flow, a (See Datasheet)", 4 IN (in) "Input Voltage and Fast Pulldown Return. IN is the anode of the ideal diode. The voltage sensed at this pin is used to control the source-drain voltage drop across the internal MOSFET. If reverse current starts to flow, a (See Datasheet)", 5 NC "No Connection. Not internally connected.", 6 GATE (out) "Gate Drive Output. If reverse current flows, a fast pulldown circuit quickly connects the GATE pin to the IN pin, turning off the MOSFET. Leave open if unused.", 7 NC "No Connection. Not internally connected.", 8 GND (power) "Device Ground.", 9 VDD (power) "Positive Supply Input. The LTC4358 is powered from the VDD pin. Connect this pin to OUT either directly or through an RC hold-up circuit.", 10 OUT (in) "Output Voltage. The OUT pin is the cathode of the ideal diode and the common output when multiple LTC4358s are configured as an ideal diode-OR. The voltage sensed at this pin is used to control the source-drain voltage drop (See Datasheet)", 11 NC "No Connection. Not internally connected.", 12 IN (in) "Input Voltage and Fast Pulldown Return. IN is the anode of the ideal diode. The voltage sensed at this pin is used to control the source-drain voltage drop across the internal MOSFET. If reverse current starts to flow, a (See Datasheet)", 13 IN (in) "Input Voltage and Fast Pulldown Return. IN is the anode of the ideal diode. The voltage sensed at this pin is used to control the source-drain voltage drop across the internal MOSFET. If reverse current starts to flow, a (See Datasheet)", 14 IN (in) "Input Voltage and Fast Pulldown Return. IN is the anode of the ideal diode. The voltage sensed at this pin is used to control the source-drain voltage drop across the internal MOSFET. If reverse current starts to flow, a (See Datasheet)", 15 IN (in) "Input Voltage and Fast Pulldown Return. IN is the anode of the ideal diode. The voltage sensed at this pin is used to control the source-drain voltage drop across the internal MOSFET. If reverse current starts to flow, a (See Datasheet)", 16 IN (in) "Input Voltage and Fast Pulldown Return. IN is the anode of the ideal diode. The voltage sensed at this pin is used to control the source-drain voltage drop across the internal MOSFET. If reverse current starts to flow, a (See Datasheet)", 17 DRAIN "The exposed pad is the drain of the internal N-channel MOSFET. This pin must be connected to OUT (Pin 9/Pin 10)."

## LTC4358IFE#TRPBF
designator U?
5 A Ideal Diode, 9 to 26.5 V Vin, 16-pin SOP (FE-16-EPV-BC), -40 to 85 degC, Pb-Free, Tape and Reel; Manufacturer: Linear Technology; PartNumber: LTC4358IFE#TRPBF; Ideal Diode: Single, Internal, N-Channel; DatasheetVersion: Rev. A; PackageVersion: Rev. J, 11/2012; PackageReference: FE-16; PackageDescription: 16-Pin Plastic TSSOP, Body 5 x 4.4 mm, Pitch 0.65 mm; Supplier 1: Digi-Key; Supplier Part Number 1: LTC4358IFE#TRPBF-ND; Supplier 2: Newark; Supplier Part Number 2: 02P7621; Packing: Tape and Reel; RoHS: TRUE; Mounting Technology: Surface Mount; ComponentLink1Description: Manufacturer URL; ComponentLink1URL: http://www.linear.com/; ComponentLink2Description: Datasheet; ComponentLink2URL: http://cds.linear.com/docs/en/datasheet/4358fa.pdf; ComponentLink3Description: Package Specification; ComponentLink3URL: http://cds.linear.com/docs/en/packaging/05081663__J_FE16(BC).pdf
footprint LT-FE-16-EPV-BC_N (SOP, 16-Leads, Body 5.1x4.5mm, Pitch 0.65mm, Thermal Pad 3.58x2.94mm, IPC Medium Density)
footprint LT-FE-16-EPV-BC_L (SOP, 16-Leads, Body 5.1x4.5mm, Pitch 0.65mm, Thermal Pad 3.58x2.94mm, IPC High Density)
footprint LT-FE-16-EPV-BC_M (SOP, 16-Leads, Body 5.1x4.5mm, Pitch 0.65mm, Thermal Pad 3.58x2.94mm, IPC Low Density)
pins: 1 IN (in) "Input Voltage and Fast Pulldown Return. IN is the anode of the ideal diode. The voltage sensed at this pin is used to control the source-drain voltage drop across the internal MOSFET. If reverse current starts to flow, a (See Datasheet)", 2 IN (in) "Input Voltage and Fast Pulldown Return. IN is the anode of the ideal diode. The voltage sensed at this pin is used to control the source-drain voltage drop across the internal MOSFET. If reverse current starts to flow, a (See Datasheet)", 3 IN (in) "Input Voltage and Fast Pulldown Return. IN is the anode of the ideal diode. The voltage sensed at this pin is used to control the source-drain voltage drop across the internal MOSFET. If reverse current starts to flow, a (See Datasheet)", 4 IN (in) "Input Voltage and Fast Pulldown Return. IN is the anode of the ideal diode. The voltage sensed at this pin is used to control the source-drain voltage drop across the internal MOSFET. If reverse current starts to flow, a (See Datasheet)", 5 NC "No Connection. Not internally connected.", 6 GATE (out) "Gate Drive Output. If reverse current flows, a fast pulldown circuit quickly connects the GATE pin to the IN pin, turning off the MOSFET. Leave open if unused.", 7 NC "No Connection. Not internally connected.", 8 GND (power) "Device Ground.", 9 VDD (power) "Positive Supply Input. The LTC4358 is powered from the VDD pin. Connect this pin to OUT either directly or through an RC hold-up circuit.", 10 OUT (in) "Output Voltage. The OUT pin is the cathode of the ideal diode and the common output when multiple LTC4358s are configured as an ideal diode-OR. The voltage sensed at this pin is used to control the source-drain voltage drop (See Datasheet)", 11 NC "No Connection. Not internally connected.", 12 IN (in) "Input Voltage and Fast Pulldown Return. IN is the anode of the ideal diode. The voltage sensed at this pin is used to control the source-drain voltage drop across the internal MOSFET. If reverse current starts to flow, a (See Datasheet)", 13 IN (in) "Input Voltage and Fast Pulldown Return. IN is the anode of the ideal diode. The voltage sensed at this pin is used to control the source-drain voltage drop across the internal MOSFET. If reverse current starts to flow, a (See Datasheet)", 14 IN (in) "Input Voltage and Fast Pulldown Return. IN is the anode of the ideal diode. The voltage sensed at this pin is used to control the source-drain voltage drop across the internal MOSFET. If reverse current starts to flow, a (See Datasheet)", 15 IN (in) "Input Voltage and Fast Pulldown Return. IN is the anode of the ideal diode. The voltage sensed at this pin is used to control the source-drain voltage drop across the internal MOSFET. If reverse current starts to flow, a (See Datasheet)", 16 IN (in) "Input Voltage and Fast Pulldown Return. IN is the anode of the ideal diode. The voltage sensed at this pin is used to control the source-drain voltage drop across the internal MOSFET. If reverse current starts to flow, a (See Datasheet)", 17 DRAIN "The exposed pad is the drain of the internal N-channel MOSFET. This pin must be connected to OUT (Pin 9/Pin 10)."

## LTC4359CDCB#PBF
designator U?
Ideal Diode Controller with Reverse Input Protection, 4 to 80 V Vin, 6-pin SON (DCB-6), 0 to 70 degC, Pb-Free; Manufacturer: Linear Technology; PartNumber: LTC4359CDCB#PBF; Ideal Diode: Single, External, N-Channel; PackageVersion: Rev. A, 03/2011; PackageReference: DCB-6; PackageDescription: 6-Pin Plastic DFN, Body 2 x 3 mm, Pitch 0.5 mm; RoHS: TRUE; Mounting Technology: Surface Mount; Code_JEDEC: MO-229; ComponentLink1Description: Manufacturer URL; ComponentLink1URL: http://www.linear.com/; ComponentLink2Description: Datasheet; ComponentLink2URL: http://cds.linear.com/docs/en/datasheet/4359f.pdf; ComponentLink3Description: Package Specification; ComponentLink3URL: http://www.linear.com/docs/en/packaging/(DCB6)%20DFN%2005-08-1715%20Rev%20A.pdf
footprint LT-DCB-6_V (SON, 6-Leads, Body 3x2mm, Pitch 0.5mm, Thermal Pad 1.65x1.35mm)
pins: 1 OUT (in) "Drain Voltage Sense. OUT is the cathode of the ideal diode and the common output when multiple LTC4359s are configured as an ideal diode-OR. It connects either directly or through a 2k resistor to the drain of the N-channel (See Datasheet)", 2 GATE (out) "Gate Drive Output. The GATE pin pulls high, enhancing the N-channel MOSFET when the load current creates more than 30mV of voltage drop across the MOSFET. When the load current is small the gate is actively driven to (See Datasheet)", 3 SOURCE (in) "Source Connection. Source is the return path of the gate fast pull-down. Connect this pin as close as possible to the source of the external N-channel MOSFET.", 4 IN (power) "Voltage Sense and Supply Voltage. IN is the anode of the ideal diode. The voltage sensed at this pin is used to control the MOSFET gate.", 5 ~{SHDN} (in) "Shutdown Control Input. The LTC4359 can be shut down to a low current mode by pulling the S\H\D\N\ pin below 0.6V. Pulling this pin above 2V or disconnecting it allows an internal 2uA current source to turn the part on. (See Datasheet)", 6 VSS (power) "Supply Voltage Return and Device Ground.", 7 EP (power) "Exposed pad may be left open or connected to VSS."

## LTC4359CDCB#TRMPBF
designator U?
Ideal Diode Controller with Reverse Input Protection, 4 to 80 V Vin, 6-pin SON (DCB-6), 0 to 70 degC, Pb-Free, Mini Tape and Reel; Manufacturer: Linear Technology; PartNumber: LTC4359CDCB#TRMPBF; Ideal Diode: Single, External, N-Channel; PackageVersion: Rev. A, 03/2011; PackageReference: DCB-6; PackageDescription: 6-Pin Plastic DFN, Body 2 x 3 mm, Pitch 0.5 mm; Supplier 1: Digi-Key; Supplier Part Number 1: LTC4359CDCB#TRMPBF-ND; Supplier 2: Newark; Supplier Part Number 2: 94T1307; Packing: Mini Tape and Reel; RoHS: TRUE; Mounting Technology: Surface Mount; Code_JEDEC: MO-229; ComponentLink1Description: Manufacturer URL; ComponentLink1URL: http://www.linear.com/; ComponentLink2Description: Datasheet; ComponentLink2URL: http://cds.linear.com/docs/en/datasheet/4359f.pdf; ComponentLink3Description: Package Specification; ComponentLink3URL: http://www.linear.com/docs/en/packaging/(DCB6)%20DFN%2005-08-1715%20Rev%20A.pdf
footprint LT-DCB-6_V (SON, 6-Leads, Body 3x2mm, Pitch 0.5mm, Thermal Pad 1.65x1.35mm)
pins: 1 OUT (in) "Drain Voltage Sense. OUT is the cathode of the ideal diode and the common output when multiple LTC4359s are configured as an ideal diode-OR. It connects either directly or through a 2k resistor to the drain of the N-channel (See Datasheet)", 2 GATE (out) "Gate Drive Output. The GATE pin pulls high, enhancing the N-channel MOSFET when the load current creates more than 30mV of voltage drop across the MOSFET. When the load current is small the gate is actively driven to (See Datasheet)", 3 SOURCE (in) "Source Connection. Source is the return path of the gate fast pull-down. Connect this pin as close as possible to the source of the external N-channel MOSFET.", 4 IN (power) "Voltage Sense and Supply Voltage. IN is the anode of the ideal diode. The voltage sensed at this pin is used to control the MOSFET gate.", 5 ~{SHDN} (in) "Shutdown Control Input. The LTC4359 can be shut down to a low current mode by pulling the S\H\D\N\ pin below 0.6V. Pulling this pin above 2V or disconnecting it allows an internal 2uA current source to turn the part on. (See Datasheet)", 6 VSS (power) "Supply Voltage Return and Device Ground.", 7 EP (power) "Exposed pad may be left open or connected to VSS."